# Altium footprint library QFN-20-1EP_4x4mm_P0.5mm_EP2.7x2.7mm_ThermalVias.PcbLib: 1 footprints
Each footprint in its own frame and in the unit in brackets; x right, y up, seen from the top. Pads: shape width x height; smd on the part's side, far side on the other; paste and mask are expansions set on the pad; w line width, h text height; cw(c..) or ccw(c..) is an arc to the next point about the centre after c.
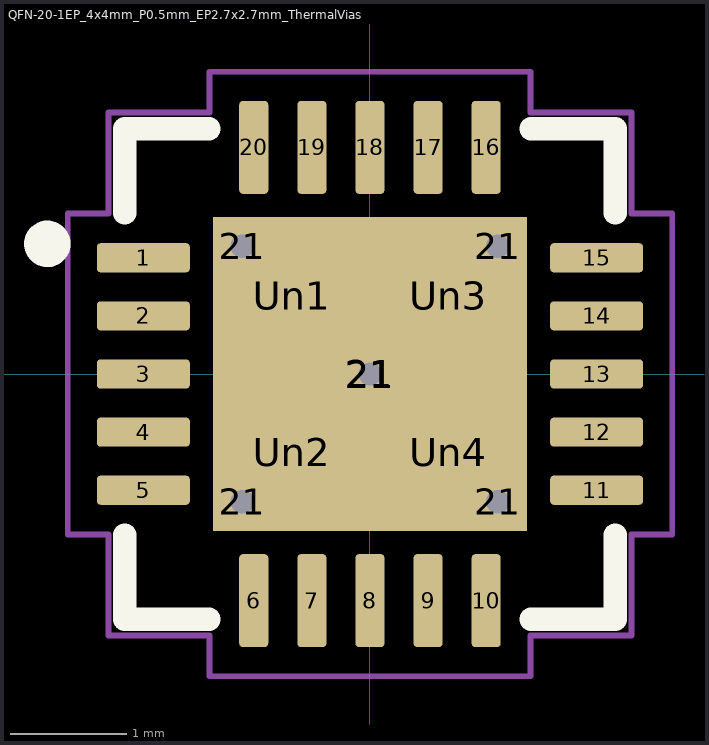
[diagram p0: the footprint, top view; thin cyan lines are the x and y axes]

## QFN-20-1EP_4x4mm_P0.5mm_EP2.7x2.7mm_ThermalVias [mm]
pads (31):
  rrect25% 0.8x0.25 smd: 1(-1.95,1) 2(-1.95,0.5) 3(-1.95,0) 4(-1.95,-0.5) 5(-1.95,-1) 11(1.95,-1) 12(1.95,-0.5) 13(1.95,0) 14(1.95,0.5) 15(1.95,1)
  rrect25% 0.25x0.8 smd: 6(-1,-1.95) 7(-0.5,-1.95) 8(0,-1.95) 9(0.5,-1.95) 10(1,-1.95) 16(1,1.95) 17(0.5,1.95) 18(0,1.95) 19(-0.5,1.95) 20(-1,1.95)
  round 0.5 hole 0.2: 21(-1.1,-1.1) 21(-1.1,1.1) 21(0,0) 21(1.1,-1.1) 21(1.1,1.1)
  rect 2.7x2.7 smd: 21(0,0)
  rect 2.7x2.7 smd far side: 21(0,0)
  rrect21% 1.17x1.17 on Top Paste: Un1(-0.675,0.675) Un2(-0.675,-0.675) Un3(0.675,0.675) Un4(0.675,-0.675)
F.SilkS:
  circle w0.2: c-2.775,1.12 r0.1
  lines w0.2: -2.11,-1.385 -2.11,-2.11 -1.385,-2.11 ; -2.11,1.385 -2.11,2.11 -1.385,2.11 ; 1.385,-2.11 2.11,-2.11 2.11,-1.385 ; 1.385,2.11 2.11,2.11 2.11,1.385
F.CrtYd:
  lines w0.05: -2.6,-1.38 -2.6,1.38 -2.25,1.38 -2.25,2.25 -1.38,2.25 -1.38,2.6 1.38,2.6 1.38,2.25 2.25,2.25 2.25,1.38 2.6,1.38 2.6,-1.38 2.25,-1.38 2.25,-2.25 1.38,-2.25 1.38,-2.6 -1.38,-2.6 -1.38,-2.25 -2.25,-2.25 -2.25,-1.38 -2.6,-1.38
3D body "QFN20_4x4.STEP": height 0.9, standoff -0.01, extent -2,-2 2,2